# Altium footprint library Crystals-oscillators.PcbLib: 17 footprints (part 1 of 2)
Each footprint in its own frame and in the unit in brackets; x right, y up, seen from the top. Pads: shape width x height; smd on the part's side, far side on the other; paste and mask are expansions set on the pad; w line width, h text height; cw(c..) or ccw(c..) is an arc to the next point about the centre after c.
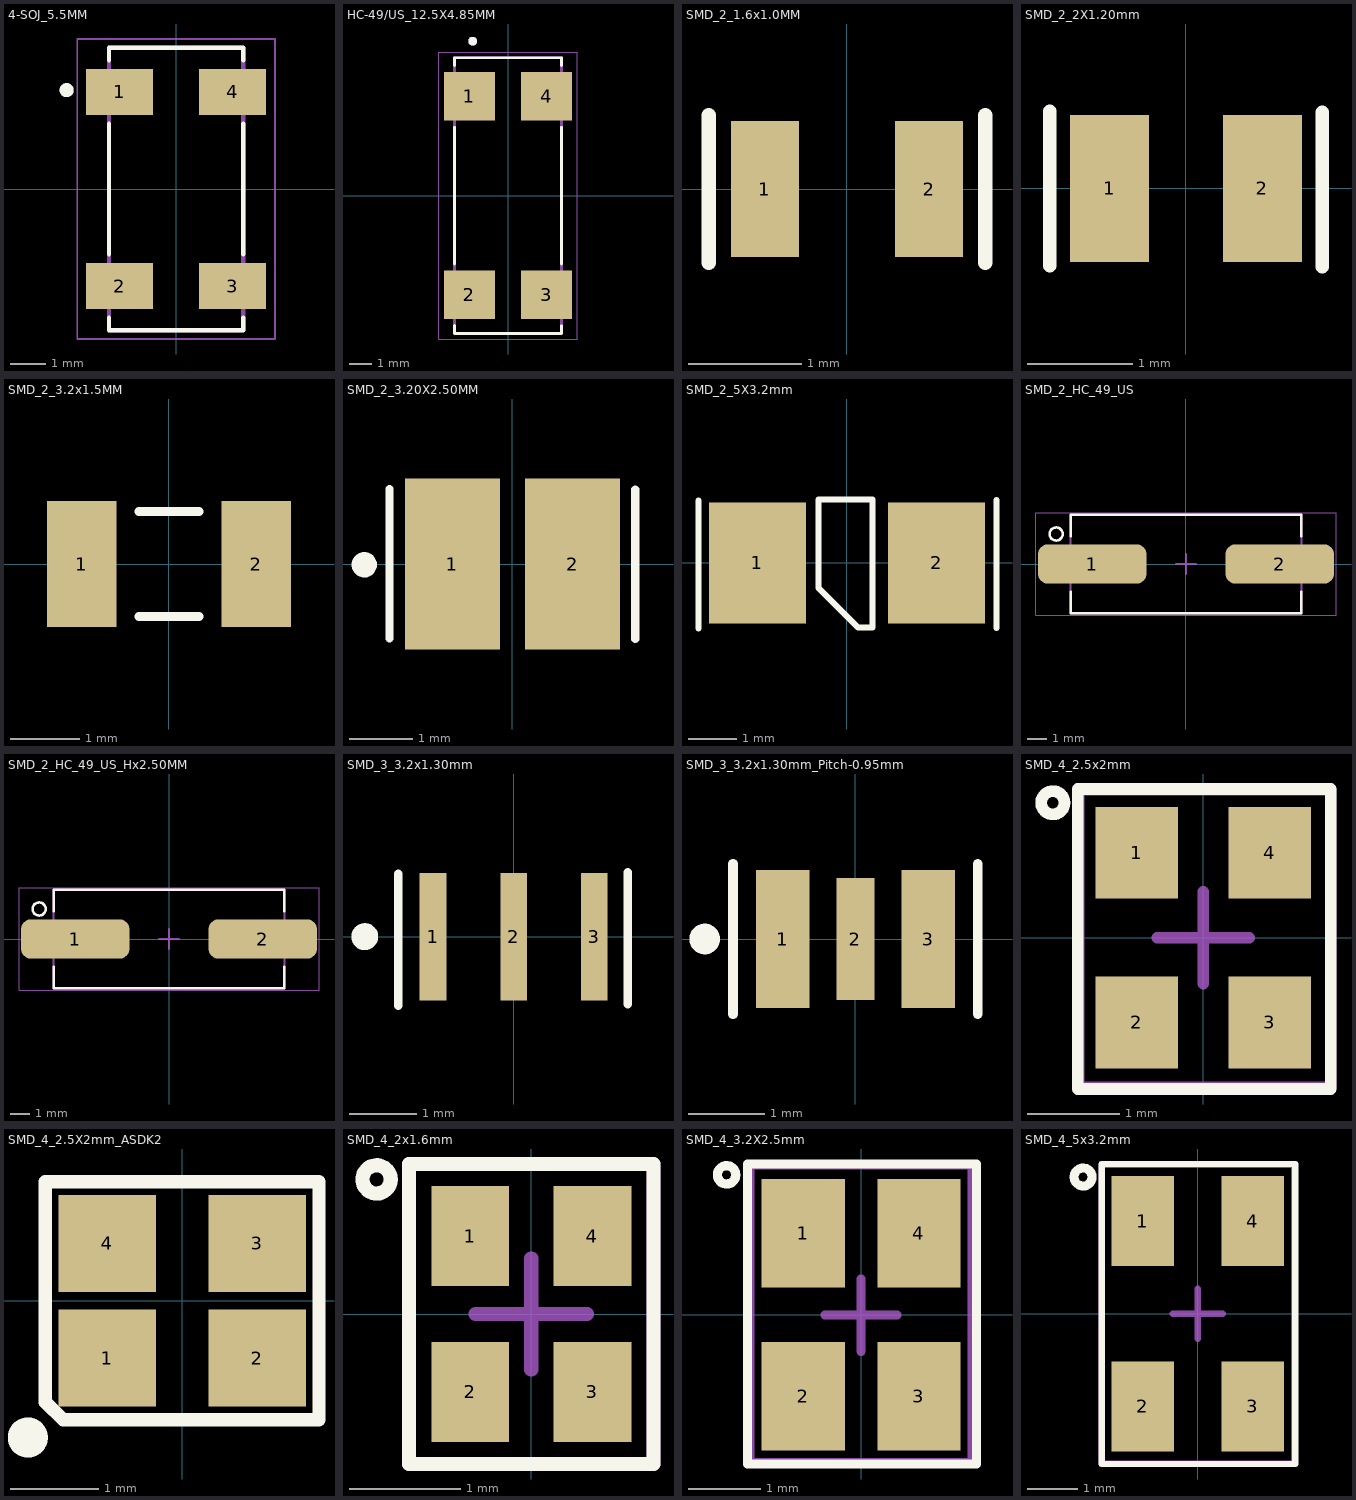
[diagram p0: the footprints below, top view; thin cyan lines are the x and y axes]

## 4-SOJ_5.5MM [mm] "/20220107/J-E.Pachon"
pads (4):
  rect 1.9x1.3 smd: 1(-1.6,2.75) 2(-1.6,-2.75) 3(1.6,-2.75) 4(1.6,2.75)
Top Overlay:
  circle w0.2: c-3.1,2.8 r0.1
  lines w0.127: -1.9,-3.65 -1.9,-4 1.9,-4 1.9,-3.65 ; -1.9,-1.85 -1.9,1.85 ; -1.9,3.65 -1.9,4 1.9,4 1.9,3.65 ; 1.9,-1.85 1.9,1.85
Mechanical 13:
  circle w0.2: c-3.1,2.8 r0.1
  lines w0.127: -1.9,-4 -1.9,4 1.9,4 1.9,-4 -1.9,-4
Mechanical 15:
  lines w0.05: -2.8,-4.25 -2.8,4.25 2.8,4.25 2.8,-4.25 -2.8,-4.25
3D body "ABS25-32.768KHZ-6-T--3DModel-STEP-400430.STEP": height 2.65, standoff -0.01, extent -2.05,-4.04 1.95,3.96

## HC-49/US_12.5X4.85MM [mm] "/20220107/J-E.Pachon"
pads (4):
  rect 2.3x2.2 smd: 1(-1.75,4.5) 2(-1.75,-4.5) 3(1.75,-4.5) 4(1.75,4.5)
Top Overlay:
  circle w0.2: c-1.6,7 r0.1
  lines w0.127: -2.425,-5.89 -2.425,-6.25 2.425,-6.25 2.425,-5.9 ; -2.425,-3.096 -2.425,3.096 ; -2.425,5.904 -2.425,6.25 2.425,6.25 2.425,5.904 ; 2.425,-3.096 2.425,3.096
Mechanical 13:
  circle w0.2: c-1.6,7 r0.1
  lines w0.127: -2.425,-6.25 -2.425,6.25 2.425,6.25 2.425,-6.25 -2.425,-6.25
Mechanical 15:
  lines w0.05: -3.15,-6.5 -3.15,6.5 3.15,6.5 3.15,-6.5 -3.15,-6.5
3D body "ECS-80-16-28AX-TR.STEP": height 5.02, standoff 0.02, extent -2.455,-6.24 2.395,6.26

## SMD_2_1.6x1.0MM [mm] "/ 20191210 / C-D Viveros"
pads (2):
  rect 0.6x1.2 smd: 1(-0.725,0) 2(0.725,0)
Top Overlay:
  lines w0.127: -1.22,-0.65 -1.22,0.65 ; 1.22,-0.65 1.22,0.65
3D body: height 0.5, standoff 0, extent -0.8,-0.5 0.8,0.5

## SMD_2_2X1.20mm [mm] "/ 20190222 / C-A.Serna.A"
pads (2):
  rect 0.75x1.4 smd: 1(-0.725,0) 2(0.725,0)
Top Overlay:
  lines w0.127: -1.295,-0.735 -1.295,0.735 ; 1.295,-0.745 1.295,0.725
3D body "ABS06-107.STEP": height 0.62, standoff 0.01, extent -1.003,-0.597 1.003,0.597

## SMD_2_3.2x1.5MM [mm] "/20220825/J-A.Sepulveda"
pads (2):
  rect 1x1.8 smd: 1(-1.25,0) 2(1.25,0)
Top Overlay:
  lines w0.127: -0.43,-0.75 0.43,-0.75 ; -0.43,0.75 0.43,0.75
3D body "CC7V-T1A-32.768kHz-9pF-20PPM-TA-QC.STEP": height 0.91, standoff 0.01, extent -1.59,-0.76 1.61,0.74

## SMD_2_3.20X2.50MM [mm] "/20220523/F-A.Ospina"
pads (2):
  rect 1.5x2.7 smd paste+0: 1(-0.95,0) 2(0.95,0)
Top Overlay:
  circle w0.2: c-2.342,-0.012 r0.1
  lines w0.127: -1.942,-1.18 -1.942,1.187 ; 1.94,-1.187 1.94,1.179
3D body "XTAL_NX3225GD-8MHZ-STD-CRA-3_NDK.step": height 0.99, standoff 0, extent -1.648,-1.295 1.654,1.295

## SMD_2_5X3.2mm [mm] "/ 20190222 / C-A.Serna.A"
pads (2):
  rect 2x2.5 smd: 1(-1.85,0) 2(1.85,0)
Top Overlay:
  lines w0.127: -3.07,-1.36 -3.07,1.29 ; 3.09,-1.35 3.09,1.3 ; -0.59,-0.52 0.23,-1.34 0.53,-1.34 0.53,1.31 -0.57,1.31 -0.59,1.31 -0.59,-0.52
3D body: height 0.5, standoff 0, extent -2.48,-1.61 2.52,1.59

## SMD_2_HC_49_US [mm] "HC-49-US / 20190312 / H-D.Garcia"
pads (2):
  rrect50% 5.5x2 smd: 1(-4.75,0) 2(4.75,0)
Top Overlay:
  circle w0.127: c-6.58,1.52 r0.331
  lines w0.127: -5.85,-1.4 -5.85,-2.5 5.85,-2.5 5.85,-1.4 ; -5.85,1.4 -5.85,2.5 5.85,2.5 5.85,1.4
Mechanical 1:
  lines w0.1: -5.85,-2.5 -5.85,2.5 5.85,2.5 5.85,-2.5 -5.85,-2.5
Mechanical 15:
  lines w0.05: -7.6,-2.6 7.6,-2.6 7.6,2.6 -7.6,2.6 -7.6,-2.6
  lines w0.1: -0.5,0 0.5,0 ; 0,-0.5 0,0.5
3D body "User Library-HC-49S.STEP": height 4.34, standoff -0.01, extent -6.15,-2.35 6.15,2.35

## SMD_2_HC_49_US_Hx2.50MM [mm] "/20221118/J-A.Sepulveda"
pads (2):
  rrect50% 5.5x2 smd: 1(-4.75,0) 2(4.75,0)
Top Overlay:
  circle w0.127: c-6.58,1.52 r0.331
  lines w0.127: -5.85,-1.4 -5.85,-2.5 5.85,-2.5 5.85,-1.4 ; -5.85,1.4 -5.85,2.5 5.85,2.5 5.85,1.4
Mechanical 1:
  lines w0.1: -5.85,-2.5 5.85,-2.5 5.85,2.5 -5.85,2.5 -5.85,-2.5
Mechanical 15:
  lines w0.05: -7.6,-2.6 -7.6,2.6 7.6,2.6 7.6,-2.6 -7.6,-2.6
  lines w0.1: -0.5,0 0.5,0 ; 0,-0.5 0,0.5
3D body "ABLS3-6.000MHZ-D4Y-T.STEP": height 3.28, standoff 0.01, extent -6.35,-2.349 6.35,2.35

## SMD_3_3.2x1.30mm [mm] "/ 20210210 / M-C.Calderon"
pads (3):
  rect 0.4x1.9 smd: 1(-1.2,0) 2(0,0) 3(1.2,0)
Top Overlay:
  circle w0.2: c-2.22,0 r0.1
  lines w0.127: -1.72,-1.03 -1.72,0.94 ; 1.7,-1.01 1.7,0.96
3D body "step_temp.STEP": height 1, standoff 0, extent -1.6,-0.65 1.6,0.65

## SMD_3_3.2x1.30mm_Pitch-0.95mm [mm] "/ 20210714 / C-D Viveros"
pads (3):
  rect 0.7x1.8 smd: 1(-0.95,0) 3(0.95,0)
  rect 0.5x1.6 smd: 2(0,0)
Top Overlay:
  circle w0.2: c-1.97,0 r0.1
  lines w0.127: -1.6,-0.985 -1.6,0.985 ; 1.6,-0.985 1.6,0.985
3D body "CSTCE16M0V53-R0.STEP": height 1, standoff 0, extent -1.6,-0.65 1.6,0.65

## SMD_4_2.5x2mm [mm] "/ 20190222 / C-A.Serna.A"
pads (4):
  rect 0.9x1 smd: 1(-0.725,0.925) 2(-0.725,-0.925) 3(0.725,-0.925) 4(0.725,0.925)
Top Overlay:
  circle w0.127: c-1.64,1.47 r0.127
  lines w0.127: -1.37,-1.65 -1.37,1.62 1.39,1.62 1.39,-1.65 -1.37,-1.65
Mechanical 15:
  lines w0.127: -0.5,0 0.5,0 ; 0,-0.5 0,0.5 ; -1.36,-1.63 -1.36,1.61 1.39,1.61 1.39,-1.63 -1.36,-1.63
3D body "Crystal_4SMD_2.5x2mm.step": height 1.24, standoff 0.02, extent -1.115,-1.357 1.115,1.357

## SMD_4_2.5X2mm_ASDK2 [mm] "/ 20200812 / M-C.Calderon"
pads (4):
  rect 1.1x1.1 smd mask+0.05: 1(-0.85,-0.65) 2(0.85,-0.65) 3(0.85,0.65) 4(-0.85,0.65)
Top Overlay:
  circle w0.254: c-1.75,-1.55 r0.1
  lines w0.152: -1.55,-1.15 -1.55,1.35 1.55,1.35 1.55,-1.35 -1.35,-1.35 -1.55,-1.15
3D body "ASDK.STEP": height 0.91, standoff -0.04, extent -1.3,-1.05 1.2,0.95

## SMD_4_2x1.6mm [mm] "/ 20190222 / C-A.Serna.A"
pads (4):
  rect 0.7x0.9 smd: 1(-0.55,0.7) 2(-0.55,-0.7) 3(0.55,-0.7) 4(0.55,0.7)
Top Overlay:
  circle w0.127: c-1.392,1.211 r0.127
  lines w0.127: -1.1,-1.35 -1.1,1.35 1.1,1.35 1.1,-1.35 -1.1,-1.35
Mechanical 15:
  lines w0.127: -1.1,-1.35 -1.1,1.35 1.1,1.35 1.1,-1.35 ; -0.5,0 0.5,0 ; 0,-0.5 0,0.5
3D body "Crystal_4SMD_2x1.6mm.step": height 0.72, standoff 0.01, extent -0.8,-1 0.8,1

## SMD_4_3.2X2.5mm [mm] "/ 20190222 / C-A.Serna.A"
height 0.6
pads (4):
  rect 1.15x1.5 smd: 1(-0.8,1.125) 2(-0.8,-1.125) 3(0.8,-1.125) 4(0.8,1.125)
Top Overlay:
  circle w0.127: c-1.861,1.935 r0.127
  lines w0.127: -1.571,-2.065 1.599,-2.065 1.599,2.085 -1.571,2.085 -1.571,-2.065
Mechanical 15:
  lines w0.127: -0.501,-0.005 0.499,-0.005 ; -0.001,-0.505 -0.001,0.495 ; -1.541,-2.045 1.539,-2.045 1.539,2.075 -1.541,2.075 -1.541,-2.045
3D body: height 0.6, standoff 0, extent -1.298,-1.604 1.302,1.597

## SMD_4_5x3.2mm [mm] "/ 20190222 / C-A.Serna.A"
pads (4):
  rect 1.25x1.8 smd: 1(-1.1,1.85) 2(-1.1,-1.85) 3(1.1,-1.85) 4(1.1,1.85)
Top Overlay:
  circle w0.178: c-2.29,2.73 r0.18
  lines w0.127: -1.92,-3 1.95,-3 1.95,2.99 -1.92,2.99 -1.92,-3
Mechanical 15:
  lines w0.127: -0.5,0 0.5,0 ; 0,-0.5 0,0.5 ; -1.92,-2.99 -1.92,2.97 1.93,2.97 1.93,-2.99 -1.92,-2.99
3D body "CRYSTALSMD5X32.step": height 1.01, standoff 0.01, extent -1.608,-2.479 1.592,2.521